# Altium schematic symbol library resistor.SCHLIB: 767 symbols (part 1 of 4)
Pins are listed as number, name and electrical type; pins without a type are passive.

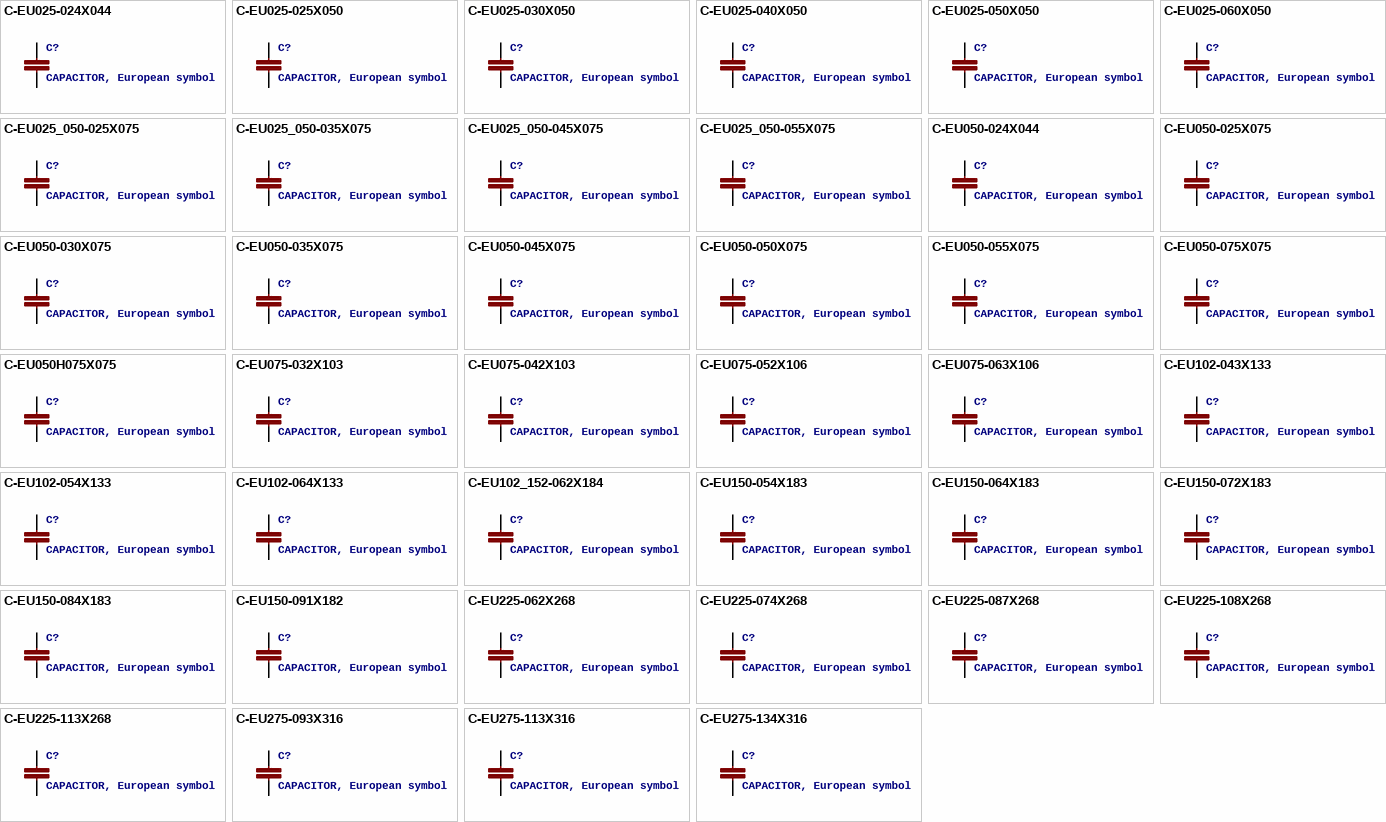
[diagram p0: symbols C-EU025-024X044 to C-EU275-134X316]

## C-EU025-024X044
designator C?, comment CAPACITOR, European symbol
GateName_1: G$1; SymbolName_1: C-EU-1; DeviceName: 025-024X044; DeviceSetName: C-EU; LibraryName: resistor; Package: C025-024X044
footprint C025-024X044
pins: 1, 2

## C-EU025-025X050
designator C?, comment CAPACITOR, European symbol
GateName_1: G$1; SymbolName_1: C-EU-1; DeviceName: 025-025X050; DeviceSetName: C-EU; LibraryName: resistor; Package: C025-025X050
footprint C025-025X050
pins: 1, 2

## C-EU025-030X050
designator C?, comment CAPACITOR, European symbol
GateName_1: G$1; SymbolName_1: C-EU-1; DeviceName: 025-030X050; DeviceSetName: C-EU; LibraryName: resistor; Package: C025-030X050
footprint C025-030X050
pins: 1, 2

## C-EU025-040X050
designator C?, comment CAPACITOR, European symbol
GateName_1: G$1; SymbolName_1: C-EU-1; DeviceName: 025-040X050; DeviceSetName: C-EU; LibraryName: resistor; Package: C025-040X050
footprint C025-040X050
pins: 1, 2

## C-EU025-050X050
designator C?, comment CAPACITOR, European symbol
GateName_1: G$1; SymbolName_1: C-EU-1; DeviceName: 025-050X050; DeviceSetName: C-EU; LibraryName: resistor; Package: C025-050X050
footprint C025-050X050
pins: 1, 2

## C-EU025-060X050
designator C?, comment CAPACITOR, European symbol
GateName_1: G$1; SymbolName_1: C-EU-1; DeviceName: 025-060X050; DeviceSetName: C-EU; LibraryName: resistor; Package: C025-060X050
footprint C025-060X050
pins: 1, 2

## C-EU025_050-025X075
designator C?, comment CAPACITOR, European symbol
GateName_1: G$1; SymbolName_1: C-EU-1; DeviceName: 025_050-025X075; DeviceSetName: C-EU; LibraryName: resistor; Package: C025_050-025X075
footprint C025_050-025X075
pins: 1, 2

## C-EU025_050-035X075
designator C?, comment CAPACITOR, European symbol
GateName_1: G$1; SymbolName_1: C-EU-1; DeviceName: 025_050-035X075; DeviceSetName: C-EU; LibraryName: resistor; Package: C025_050-035X075
footprint C025_050-035X075
pins: 1, 2

## C-EU025_050-045X075
designator C?, comment CAPACITOR, European symbol
GateName_1: G$1; SymbolName_1: C-EU-1; DeviceName: 025_050-045X075; DeviceSetName: C-EU; LibraryName: resistor; Package: C025_050-045X075
footprint C025_050-045X075
pins: 1, 2

## C-EU025_050-055X075
designator C?, comment CAPACITOR, European symbol
GateName_1: G$1; SymbolName_1: C-EU-1; DeviceName: 025_050-055X075; DeviceSetName: C-EU; LibraryName: resistor; Package: C025_050-055X075
footprint C025_050-055X075
pins: 1, 2

## C-EU050-024X044
designator C?, comment CAPACITOR, European symbol
GateName_1: G$1; SymbolName_1: C-EU-1; DeviceName: 050-024X044; DeviceSetName: C-EU; LibraryName: resistor; Package: C050-024X044
footprint C050-024X044
pins: 1, 2

## C-EU050-025X075
designator C?, comment CAPACITOR, European symbol
GateName_1: G$1; SymbolName_1: C-EU-1; DeviceName: 050-025X075; DeviceSetName: C-EU; LibraryName: resistor; Package: C050-025X075
footprint C050-025X075
pins: 1, 2

## C-EU050-030X075
designator C?, comment CAPACITOR, European symbol
GateName_1: G$1; SymbolName_1: C-EU-1; DeviceName: 050-030X075; DeviceSetName: C-EU; LibraryName: resistor; Package: C050-030X075
footprint C050-030X075
pins: 1, 2

## C-EU050-035X075
designator C?, comment CAPACITOR, European symbol
GateName_1: G$1; SymbolName_1: C-EU-1; DeviceName: 050-035X075; DeviceSetName: C-EU; LibraryName: resistor; Package: C050-035X075
footprint C050-035X075
pins: 1, 2

## C-EU050-045X075
designator C?, comment CAPACITOR, European symbol
GateName_1: G$1; SymbolName_1: C-EU-1; DeviceName: 050-045X075; DeviceSetName: C-EU; LibraryName: resistor; Package: C050-045X075
footprint C050-045X075
pins: 1, 2

## C-EU050-050X075
designator C?, comment CAPACITOR, European symbol
GateName_1: G$1; SymbolName_1: C-EU-1; DeviceName: 050-050X075; DeviceSetName: C-EU; LibraryName: resistor; Package: C050-050X075
footprint C050-050X075
pins: 1, 2

## C-EU050-055X075
designator C?, comment CAPACITOR, European symbol
GateName_1: G$1; SymbolName_1: C-EU-1; DeviceName: 050-055X075; DeviceSetName: C-EU; LibraryName: resistor; Package: C050-055X075
footprint C050-055X075
pins: 1, 2

## C-EU050-075X075
designator C?, comment CAPACITOR, European symbol
GateName_1: G$1; SymbolName_1: C-EU-1; DeviceName: 050-075X075; DeviceSetName: C-EU; LibraryName: resistor; Package: C050-075X075
footprint C050-075X075
pins: 1, 2

## C-EU050H075X075
designator C?, comment CAPACITOR, European symbol
GateName_1: G$1; SymbolName_1: C-EU-1; DeviceName: 050H075X075; DeviceSetName: C-EU; LibraryName: resistor; Package: C050H075X075
footprint C050H075X075
pins: 1, 2

## C-EU075-032X103
designator C?, comment CAPACITOR, European symbol
GateName_1: G$1; SymbolName_1: C-EU-1; DeviceName: 075-032X103; DeviceSetName: C-EU; LibraryName: resistor; Package: C075-032X103
footprint C075-032X103
pins: 1, 2

## C-EU075-042X103
designator C?, comment CAPACITOR, European symbol
GateName_1: G$1; SymbolName_1: C-EU-1; DeviceName: 075-042X103; DeviceSetName: C-EU; LibraryName: resistor; Package: C075-042X103
footprint C075-042X103
pins: 1, 2

## C-EU075-052X106
designator C?, comment CAPACITOR, European symbol
GateName_1: G$1; SymbolName_1: C-EU-1; DeviceName: 075-052X106; DeviceSetName: C-EU; LibraryName: resistor; Package: C075-052X106
footprint C075-052X106
pins: 1, 2

## C-EU075-063X106
designator C?, comment CAPACITOR, European symbol
GateName_1: G$1; SymbolName_1: C-EU-1; DeviceName: 075-063X106; DeviceSetName: C-EU; LibraryName: resistor; Package: C075-063X106
footprint C075-063X106
pins: 1, 2

## C-EU102-043X133
designator C?, comment CAPACITOR, European symbol
GateName_1: G$1; SymbolName_1: C-EU-1; DeviceName: 102-043X133; DeviceSetName: C-EU; LibraryName: resistor; Package: C102-043X133
footprint C102-043X133
pins: 1, 2

## C-EU102-054X133
designator C?, comment CAPACITOR, European symbol
GateName_1: G$1; SymbolName_1: C-EU-1; DeviceName: 102-054X133; DeviceSetName: C-EU; LibraryName: resistor; Package: C102-054X133
footprint C102-054X133
pins: 1, 2

## C-EU102-064X133
designator C?, comment CAPACITOR, European symbol
GateName_1: G$1; SymbolName_1: C-EU-1; DeviceName: 102-064X133; DeviceSetName: C-EU; LibraryName: resistor; Package: C102-064X133
footprint C102-064X133
pins: 1, 2

## C-EU102_152-062X184
designator C?, comment CAPACITOR, European symbol
GateName_1: G$1; SymbolName_1: C-EU-1; DeviceName: 102_152-062X184; DeviceSetName: C-EU; LibraryName: resistor; Package: C102_152-062X184
footprint C102_152-062X184
pins: 1, 2

## C-EU150-054X183
designator C?, comment CAPACITOR, European symbol
GateName_1: G$1; SymbolName_1: C-EU-1; DeviceName: 150-054X183; DeviceSetName: C-EU; LibraryName: resistor; Package: C150-054X183
footprint C150-054X183
pins: 1, 2

## C-EU150-064X183
designator C?, comment CAPACITOR, European symbol
GateName_1: G$1; SymbolName_1: C-EU-1; DeviceName: 150-064X183; DeviceSetName: C-EU; LibraryName: resistor; Package: C150-064X183
footprint C150-064X183
pins: 1, 2

## C-EU150-072X183
designator C?, comment CAPACITOR, European symbol
GateName_1: G$1; SymbolName_1: C-EU-1; DeviceName: 150-072X183; DeviceSetName: C-EU; LibraryName: resistor; Package: C150-072X183
footprint C150-072X183
pins: 1, 2

## C-EU150-084X183
designator C?, comment CAPACITOR, European symbol
GateName_1: G$1; SymbolName_1: C-EU-1; DeviceName: 150-084X183; DeviceSetName: C-EU; LibraryName: resistor; Package: C150-084X183
footprint C150-084X183
pins: 1, 2

## C-EU150-091X182
designator C?, comment CAPACITOR, European symbol
GateName_1: G$1; SymbolName_1: C-EU-1; DeviceName: 150-091X182; DeviceSetName: C-EU; LibraryName: resistor; Package: C150-091X182
footprint C150-091X182
pins: 1, 2

## C-EU225-062X268
designator C?, comment CAPACITOR, European symbol
GateName_1: G$1; SymbolName_1: C-EU-1; DeviceName: 225-062X268; DeviceSetName: C-EU; LibraryName: resistor; Package: C225-062X268
footprint C225-062X268
pins: 1, 2

## C-EU225-074X268
designator C?, comment CAPACITOR, European symbol
GateName_1: G$1; SymbolName_1: C-EU-1; DeviceName: 225-074X268; DeviceSetName: C-EU; LibraryName: resistor; Package: C225-074X268
footprint C225-074X268
pins: 1, 2

## C-EU225-087X268
designator C?, comment CAPACITOR, European symbol
GateName_1: G$1; SymbolName_1: C-EU-1; DeviceName: 225-087X268; DeviceSetName: C-EU; LibraryName: resistor; Package: C225-087X268
footprint C225-087X268
pins: 1, 2

## C-EU225-108X268
designator C?, comment CAPACITOR, European symbol
GateName_1: G$1; SymbolName_1: C-EU-1; DeviceName: 225-108X268; DeviceSetName: C-EU; LibraryName: resistor; Package: C225-108X268
footprint C225-108X268
pins: 1, 2

## C-EU225-113X268
designator C?, comment CAPACITOR, European symbol
GateName_1: G$1; SymbolName_1: C-EU-1; DeviceName: 225-113X268; DeviceSetName: C-EU; LibraryName: resistor; Package: C225-113X268
footprint C225-113X268
pins: 1, 2

## C-EU275-093X316
designator C?, comment CAPACITOR, European symbol
GateName_1: G$1; SymbolName_1: C-EU-1; DeviceName: 275-093X316; DeviceSetName: C-EU; LibraryName: resistor; Package: C275-093X316
footprint C275-093X316
pins: 1, 2

## C-EU275-113X316
designator C?, comment CAPACITOR, European symbol
GateName_1: G$1; SymbolName_1: C-EU-1; DeviceName: 275-113X316; DeviceSetName: C-EU; LibraryName: resistor; Package: C275-113X316
footprint C275-113X316
pins: 1, 2

## C-EU275-134X316
designator C?, comment CAPACITOR, European symbol
GateName_1: G$1; SymbolName_1: C-EU-1; DeviceName: 275-134X316; DeviceSetName: C-EU; LibraryName: resistor; Package: C275-134X316
footprint C275-134X316
pins: 1, 2

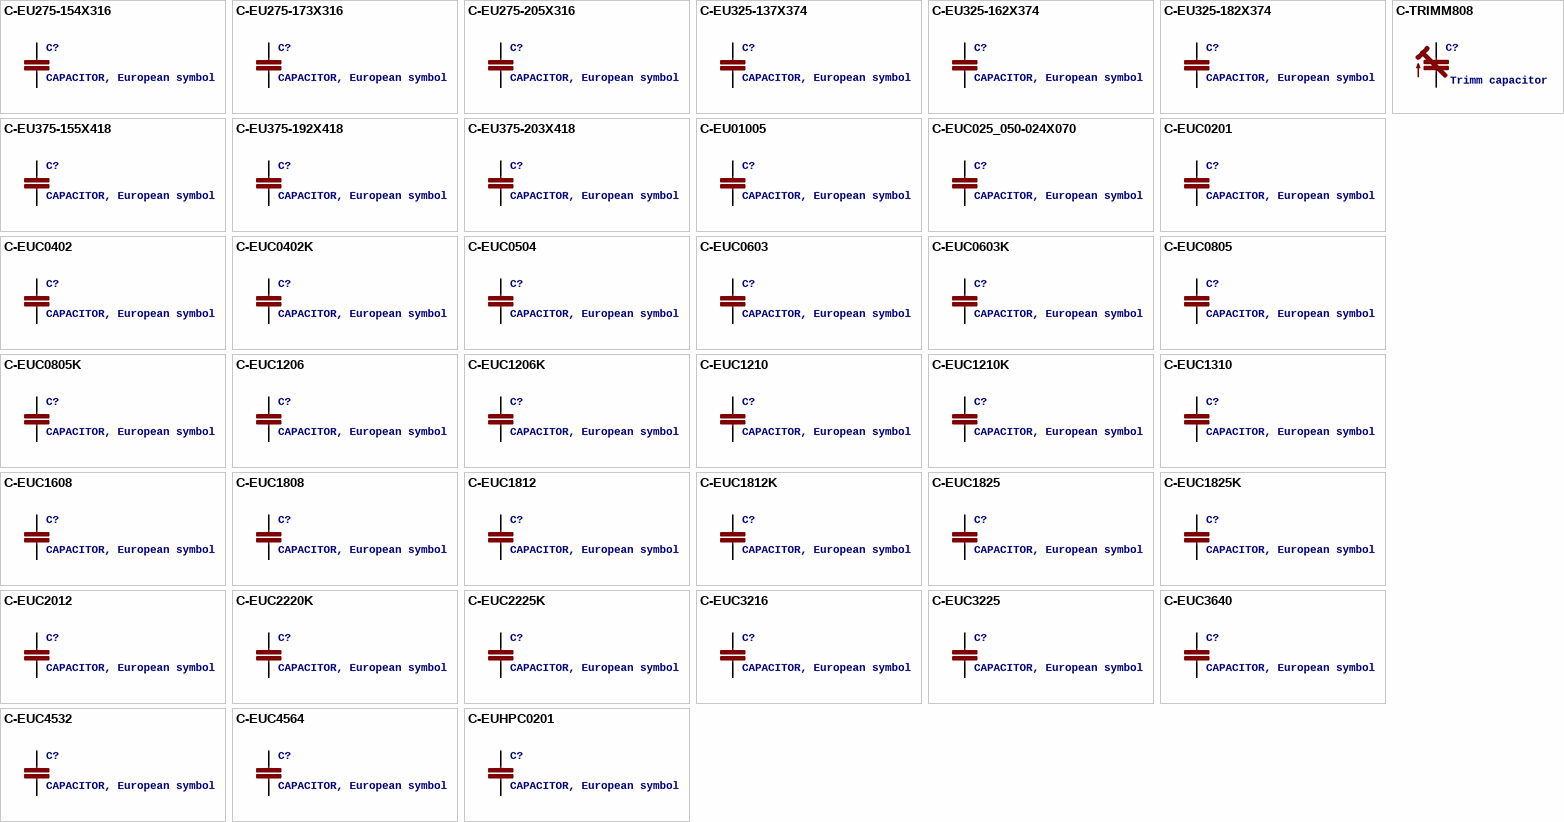
[diagram p1: symbols C-EU275-154X316 to C-TRIMM808]

## C-EU275-154X316
designator C?, comment CAPACITOR, European symbol
GateName_1: G$1; SymbolName_1: C-EU-1; DeviceName: 275-154X316; DeviceSetName: C-EU; LibraryName: resistor; Package: C275-154X316
footprint C275-154X316
pins: 1, 2

## C-EU275-173X316
designator C?, comment CAPACITOR, European symbol
GateName_1: G$1; SymbolName_1: C-EU-1; DeviceName: 275-173X316; DeviceSetName: C-EU; LibraryName: resistor; Package: C275-173X316
footprint C275-173X316
pins: 1, 2

## C-EU275-205X316
designator C?, comment CAPACITOR, European symbol
GateName_1: G$1; SymbolName_1: C-EU-1; DeviceName: 275-205X316; DeviceSetName: C-EU; LibraryName: resistor; Package: C275-205X316
footprint C275-205X316
pins: 1, 2

## C-EU325-137X374
designator C?, comment CAPACITOR, European symbol
GateName_1: G$1; SymbolName_1: C-EU-1; DeviceName: 325-137X374; DeviceSetName: C-EU; LibraryName: resistor; Package: C325-137X374
footprint C325-137X374
pins: 1, 2

## C-EU325-162X374
designator C?, comment CAPACITOR, European symbol
GateName_1: G$1; SymbolName_1: C-EU-1; DeviceName: 325-162X374; DeviceSetName: C-EU; LibraryName: resistor; Package: C325-162X374
footprint C325-162X374
pins: 1, 2

## C-EU325-182X374
designator C?, comment CAPACITOR, European symbol
GateName_1: G$1; SymbolName_1: C-EU-1; DeviceName: 325-182X374; DeviceSetName: C-EU; LibraryName: resistor; Package: C325-182X374
footprint C325-182X374
pins: 1, 2

## C-EU375-155X418
designator C?, comment CAPACITOR, European symbol
GateName_1: G$1; SymbolName_1: C-EU-1; DeviceName: 375-155X418; DeviceSetName: C-EU; LibraryName: resistor; Package: C375-155X418
footprint C375-155X418
pins: 1, 2

## C-EU375-192X418
designator C?, comment CAPACITOR, European symbol
GateName_1: G$1; SymbolName_1: C-EU-1; DeviceName: 375-192X418; DeviceSetName: C-EU; LibraryName: resistor; Package: C375-192X418
footprint C375-192X418
pins: 1, 2

## C-EU375-203X418
designator C?, comment CAPACITOR, European symbol
GateName_1: G$1; SymbolName_1: C-EU-1; DeviceName: 375-203X418; DeviceSetName: C-EU; LibraryName: resistor; Package: C375-203X418
footprint C375-203X418
pins: 1, 2

## C-EU01005
designator C?, comment CAPACITOR, European symbol
GateName_1: G$1; SymbolName_1: C-EU-1; DeviceName: 01005; DeviceSetName: C-EU; LibraryName: resistor; Package: C01005
footprint C01005
pins: 1, 2

## C-EUC025_050-024X070
designator C?, comment CAPACITOR, European symbol
GateName_1: G$1; SymbolName_1: C-EU-1; DeviceName: C025_050-024X070; DeviceSetName: C-EU; LibraryName: resistor; Package: C025_050-024X070
footprint C025_050-024X070
pins: 1, 2

## C-EUC0201
designator C?, comment CAPACITOR, European symbol
GateName_1: G$1; SymbolName_1: C-EU-1; DeviceName: C0201; DeviceSetName: C-EU; LibraryName: resistor; Package: C0201
footprint C0201
pins: 1, 2

## C-EUC0402
designator C?, comment CAPACITOR, European symbol
GateName_1: G$1; SymbolName_1: C-EU-1; DeviceName: C0402; DeviceSetName: C-EU; LibraryName: resistor; Package: C0402
footprint C0402
pins: 1, 2

## C-EUC0402K
designator C?, comment CAPACITOR, European symbol
GateName_1: G$1; SymbolName_1: C-EU-1; DeviceName: C0402K; DeviceSetName: C-EU; LibraryName: resistor; Package: C0402K
footprint C0402K
pins: 1, 2

## C-EUC0504
designator C?, comment CAPACITOR, European symbol
GateName_1: G$1; SymbolName_1: C-EU-1; DeviceName: C0504; DeviceSetName: C-EU; LibraryName: resistor; Package: C0504
footprint C0504
pins: 1, 2

## C-EUC0603
designator C?, comment CAPACITOR, European symbol
GateName_1: G$1; SymbolName_1: C-EU-1; DeviceName: C0603; DeviceSetName: C-EU; LibraryName: resistor; Package: C0603
footprint C0603
pins: 1, 2

## C-EUC0603K
designator C?, comment CAPACITOR, European symbol
GateName_1: G$1; SymbolName_1: C-EU-1; DeviceName: C0603K; DeviceSetName: C-EU; LibraryName: resistor; Package: C0603K
footprint C0603K
pins: 1, 2

## C-EUC0805
designator C?, comment CAPACITOR, European symbol
GateName_1: G$1; SymbolName_1: C-EU-1; DeviceName: C0805; DeviceSetName: C-EU; LibraryName: resistor; Package: C0805
footprint C0805
pins: 1, 2

## C-EUC0805K
designator C?, comment CAPACITOR, European symbol
GateName_1: G$1; SymbolName_1: C-EU-1; DeviceName: C0805K; DeviceSetName: C-EU; LibraryName: resistor; Package: C0805K
footprint C0805K
pins: 1, 2

## C-EUC1206
designator C?, comment CAPACITOR, European symbol
GateName_1: G$1; SymbolName_1: C-EU-1; DeviceName: C1206; DeviceSetName: C-EU; LibraryName: resistor; Package: C1206
footprint C1206
pins: 1, 2

## C-EUC1206K
designator C?, comment CAPACITOR, European symbol
GateName_1: G$1; SymbolName_1: C-EU-1; DeviceName: C1206K; DeviceSetName: C-EU; LibraryName: resistor; Package: C1206K
footprint C1206K
pins: 1, 2

## C-EUC1210
designator C?, comment CAPACITOR, European symbol
GateName_1: G$1; SymbolName_1: C-EU-1; DeviceName: C1210; DeviceSetName: C-EU; LibraryName: resistor; Package: C1210
footprint C1210
pins: 1, 2

## C-EUC1210K
designator C?, comment CAPACITOR, European symbol
GateName_1: G$1; SymbolName_1: C-EU-1; DeviceName: C1210K; DeviceSetName: C-EU; LibraryName: resistor; Package: C1210K
footprint C1210K
pins: 1, 2

## C-EUC1310
designator C?, comment CAPACITOR, European symbol
GateName_1: G$1; SymbolName_1: C-EU-1; DeviceName: C1310; DeviceSetName: C-EU; LibraryName: resistor; Package: C1310
footprint C1310
pins: 1, 2

## C-EUC1608
designator C?, comment CAPACITOR, European symbol
GateName_1: G$1; SymbolName_1: C-EU-1; DeviceName: C1608; DeviceSetName: C-EU; LibraryName: resistor; Package: C1608
footprint C1608
pins: 1, 2

## C-EUC1808
designator C?, comment CAPACITOR, European symbol
GateName_1: G$1; SymbolName_1: C-EU-1; DeviceName: C1808; DeviceSetName: C-EU; LibraryName: resistor; Package: C1808
footprint C1808
pins: 1, 2

## C-EUC1812
designator C?, comment CAPACITOR, European symbol
GateName_1: G$1; SymbolName_1: C-EU-1; DeviceName: C1812; DeviceSetName: C-EU; LibraryName: resistor; Package: C1812
footprint C1812
pins: 1, 2

## C-EUC1812K
designator C?, comment CAPACITOR, European symbol
GateName_1: G$1; SymbolName_1: C-EU-1; DeviceName: C1812K; DeviceSetName: C-EU; LibraryName: resistor; Package: C1812K
footprint C1812K
pins: 1, 2

## C-EUC1825
designator C?, comment CAPACITOR, European symbol
GateName_1: G$1; SymbolName_1: C-EU-1; DeviceName: C1825; DeviceSetName: C-EU; LibraryName: resistor; Package: C1825
footprint C1825
pins: 1, 2

## C-EUC1825K
designator C?, comment CAPACITOR, European symbol
GateName_1: G$1; SymbolName_1: C-EU-1; DeviceName: C1825K; DeviceSetName: C-EU; LibraryName: resistor; Package: C1825K
footprint C1825K
pins: 1, 2

## C-EUC2012
designator C?, comment CAPACITOR, European symbol
GateName_1: G$1; SymbolName_1: C-EU-1; DeviceName: C2012; DeviceSetName: C-EU; LibraryName: resistor; Package: C2012
footprint C2012
pins: 1, 2

## C-EUC2220K
designator C?, comment CAPACITOR, European symbol
GateName_1: G$1; SymbolName_1: C-EU-1; DeviceName: C2220K; DeviceSetName: C-EU; LibraryName: resistor; Package: C2220K
footprint C2220K
pins: 1, 2

## C-EUC2225K
designator C?, comment CAPACITOR, European symbol
GateName_1: G$1; SymbolName_1: C-EU-1; DeviceName: C2225K; DeviceSetName: C-EU; LibraryName: resistor; Package: C2225K
footprint C2225K
pins: 1, 2

## C-EUC3216
designator C?, comment CAPACITOR, European symbol
GateName_1: G$1; SymbolName_1: C-EU-1; DeviceName: C3216; DeviceSetName: C-EU; LibraryName: resistor; Package: C3216
footprint C3216
pins: 1, 2

## C-EUC3225
designator C?, comment CAPACITOR, European symbol
GateName_1: G$1; SymbolName_1: C-EU-1; DeviceName: C3225; DeviceSetName: C-EU; LibraryName: resistor; Package: C3225
footprint C3225
pins: 1, 2

## C-EUC3640
designator C?, comment CAPACITOR, European symbol
GateName_1: G$1; SymbolName_1: C-EU-1; DeviceName: C3640; DeviceSetName: C-EU; LibraryName: resistor; Package: C3640
footprint C3640
pins: 1, 2

## C-EUC4532
designator C?, comment CAPACITOR, European symbol
GateName_1: G$1; SymbolName_1: C-EU-1; DeviceName: C4532; DeviceSetName: C-EU; LibraryName: resistor; Package: C4532
footprint C4532
pins: 1, 2

## C-EUC4564
designator C?, comment CAPACITOR, European symbol
GateName_1: G$1; SymbolName_1: C-EU-1; DeviceName: C4564; DeviceSetName: C-EU; LibraryName: resistor; Package: C4564
footprint C4564
pins: 1, 2

## C-EUHPC0201
designator C?, comment CAPACITOR, European symbol
GateName_1: G$1; SymbolName_1: C-EU-1; DeviceName: HPC0201; DeviceSetName: C-EU; LibraryName: resistor; Package: HPC0201
footprint HPC0201
pins: 1, 2

## C-TRIMM808
designator C?, comment Trimm capacitor
GateName_1: G$1; SymbolName_1: C-TRIMM; DeviceName: 808; LibraryName: resistor; DeviceSetName: C-TRIMM; Package: CTRIM808-BC
footprint CTRIM808-BC
pins: 1 E, 2 A

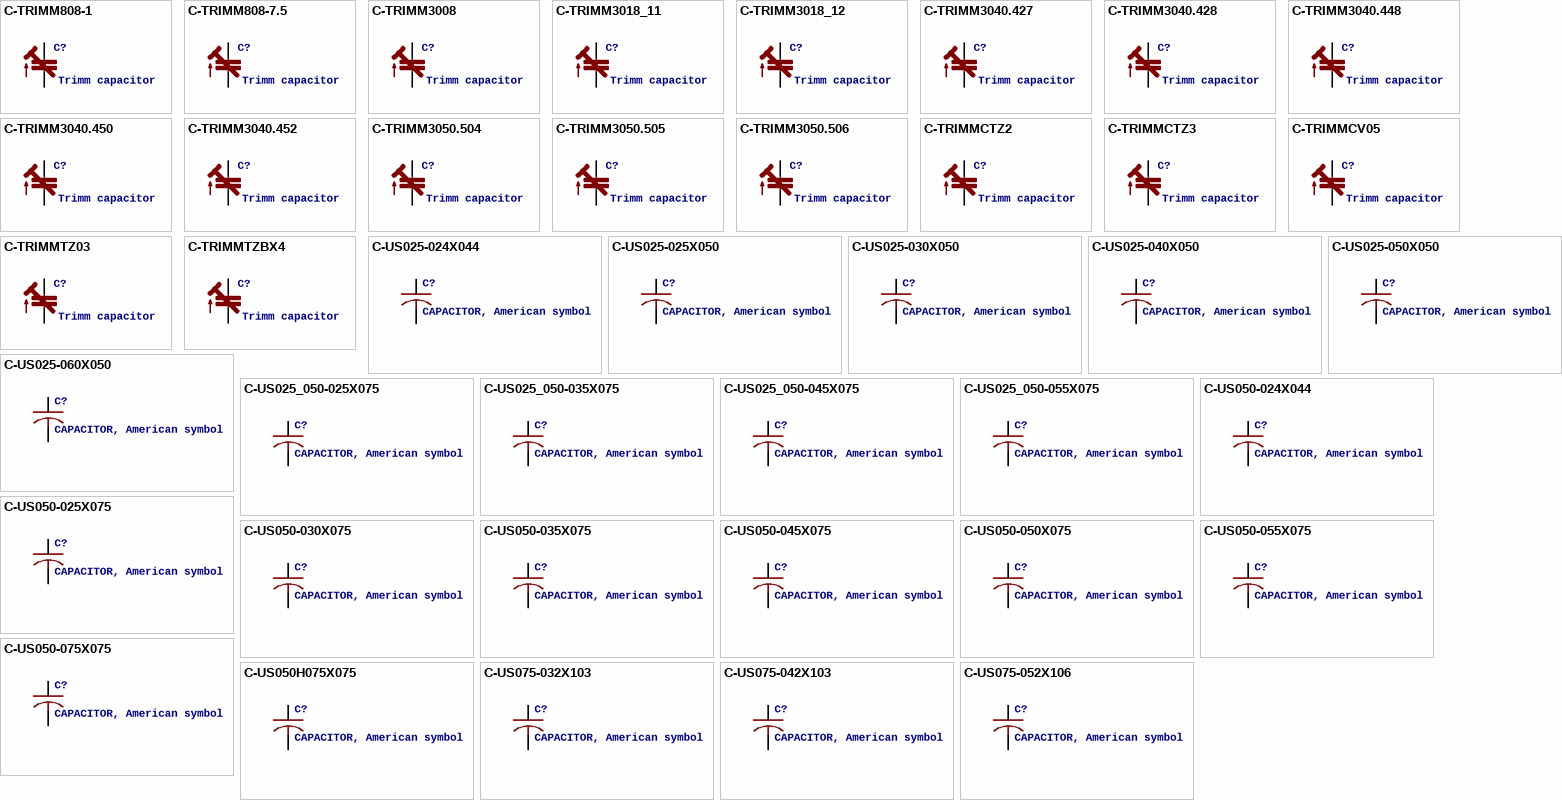
[diagram p2: symbols C-TRIMM808-1 to C-US075-052X106]

## C-TRIMM808-1
designator C?, comment Trimm capacitor
GateName_1: G$1; SymbolName_1: C-TRIMM; DeviceName: 808-1; LibraryName: resistor; DeviceSetName: C-TRIMM; Package: CTRIM808-1
footprint CTRIM808-1
pins: 1 E, 2 A

## C-TRIMM808-7.5
designator C?, comment Trimm capacitor
GateName_1: G$1; SymbolName_1: C-TRIMM; DeviceName: 808-7.5; LibraryName: resistor; DeviceSetName: C-TRIMM; Package: CTRIM808-BC7.5
footprint CTRIM808-BC7.5
pins: 1 E, 2 A

## C-TRIMM3008
designator C?, comment Trimm capacitor
GateName_1: G$1; SymbolName_1: C-TRIMM; DeviceName: 3008; LibraryName: resistor; DeviceSetName: C-TRIMM; Package: CTRIM3008
footprint CTRIM3008
pins: + E, - A

## C-TRIMM3018_11
designator C?, comment Trimm capacitor
GateName_1: G$1; SymbolName_1: C-TRIMM; DeviceName: 3018_11; LibraryName: resistor; DeviceSetName: C-TRIMM; Package: CTRIM3018_11
footprint CTRIM3018_11
pins: + E, - A

## C-TRIMM3018_12
designator C?, comment Trimm capacitor
GateName_1: G$1; SymbolName_1: C-TRIMM; DeviceName: 3018_12; LibraryName: resistor; DeviceSetName: C-TRIMM; Package: CTRIM3018_12
footprint CTRIM3018_12
pins: + E, - A

## C-TRIMM3040.427
designator C?, comment Trimm capacitor
GateName_1: G$1; SymbolName_1: C-TRIMM; DeviceName: 3040.427; LibraryName: resistor; DeviceSetName: C-TRIMM; Package: CTRIM3040.427
footprint CTRIM3040.427
pins: 1A E, 2 A

## C-TRIMM3040.428
designator C?, comment Trimm capacitor
GateName_1: G$1; SymbolName_1: C-TRIMM; DeviceName: 3040.428; LibraryName: resistor; DeviceSetName: C-TRIMM; Package: CTRIM3040.428
footprint CTRIM3040.428
pins: 1A E, 2 A

## C-TRIMM3040.448
designator C?, comment Trimm capacitor
GateName_1: G$1; SymbolName_1: C-TRIMM; DeviceName: 3040.448; LibraryName: resistor; DeviceSetName: C-TRIMM; Package: CTRIM3040.448
footprint CTRIM3040.448
pins: 1A E, 2 A

## C-TRIMM3040.450
designator C?, comment Trimm capacitor
GateName_1: G$1; SymbolName_1: C-TRIMM; DeviceName: 3040.450; LibraryName: resistor; DeviceSetName: C-TRIMM; Package: CTRIM3040.450
footprint CTRIM3040.450
pins: 1A E, 2 A

## C-TRIMM3040.452
designator C?, comment Trimm capacitor
GateName_1: G$1; SymbolName_1: C-TRIMM; DeviceName: 3040.452; LibraryName: resistor; DeviceSetName: C-TRIMM; Package: CTRIM3040.452
footprint CTRIM3040.452
pins: 1A E, 2 A

## C-TRIMM3050.504
designator C?, comment Trimm capacitor
GateName_1: G$1; SymbolName_1: C-TRIMM; DeviceName: 3050.504; LibraryName: resistor; DeviceSetName: C-TRIMM; Package: CTRIM3050.504
footprint CTRIM3050.504
pins: 1 E, 2 A

## C-TRIMM3050.505
designator C?, comment Trimm capacitor
GateName_1: G$1; SymbolName_1: C-TRIMM; DeviceName: 3050.505; LibraryName: resistor; DeviceSetName: C-TRIMM; Package: CTRIM3050.505
footprint CTRIM3050.505
pins: 1 E, 2 A

## C-TRIMM3050.506
designator C?, comment Trimm capacitor
GateName_1: G$1; SymbolName_1: C-TRIMM; DeviceName: 3050.506; LibraryName: resistor; DeviceSetName: C-TRIMM; Package: CTRIM3050.506
footprint CTRIM3050.506
pins: 1A E, 2 A

## C-TRIMMCTZ2
designator C?, comment Trimm capacitor
GateName_1: G$1; SymbolName_1: C-TRIMM; DeviceName: CTZ2; LibraryName: resistor; DeviceSetName: C-TRIMM; Package: CTRIMCTZ2
footprint CTRIMCTZ2
pins: 1 E, 2 A

## C-TRIMMCTZ3
designator C?, comment Trimm capacitor
GateName_1: G$1; SymbolName_1: C-TRIMM; DeviceName: CTZ3; LibraryName: resistor; DeviceSetName: C-TRIMM; Package: CTRIMCTZ3
footprint CTRIMCTZ3
pins: 1 E, 2 A

## C-TRIMMCV05
designator C?, comment Trimm capacitor
GateName_1: G$1; SymbolName_1: C-TRIMM; DeviceName: CV05; LibraryName: resistor; DeviceSetName: C-TRIMM; Package: CTRIMCV05
footprint CTRIMCV05
pins: 1 E, 2 A

## C-TRIMMTZ03
designator C?, comment Trimm capacitor
GateName_1: G$1; SymbolName_1: C-TRIMM; DeviceName: TZ03; LibraryName: resistor; DeviceSetName: C-TRIMM; Package: CTRIMTZ03
footprint CTRIMTZ03
pins: 1 E, 2 A

## C-TRIMMTZBX4
designator C?, comment Trimm capacitor
GateName_1: G$1; SymbolName_1: C-TRIMM; DeviceName: TZBX4; LibraryName: resistor; DeviceSetName: C-TRIMM; Package: CTRIMTZBX4
footprint CTRIMTZBX4
pins: 1 E, 2 A

## C-US025-024X044
designator C?, comment CAPACITOR, American symbol
GateName_1: G$1; SymbolName_1: C-US-1; DeviceName: 025-024X044; DeviceSetName: C-US; LibraryName: resistor; Package: C025-024X044
footprint C025-024X044
pins: 1, 2

## C-US025-025X050
designator C?, comment CAPACITOR, American symbol
GateName_1: G$1; SymbolName_1: C-US-1; DeviceName: 025-025X050; DeviceSetName: C-US; LibraryName: resistor; Package: C025-025X050
footprint C025-025X050
pins: 1, 2

## C-US025-030X050
designator C?, comment CAPACITOR, American symbol
GateName_1: G$1; SymbolName_1: C-US-1; DeviceName: 025-030X050; DeviceSetName: C-US; LibraryName: resistor; Package: C025-030X050
footprint C025-030X050
pins: 1, 2

## C-US025-040X050
designator C?, comment CAPACITOR, American symbol
GateName_1: G$1; SymbolName_1: C-US-1; DeviceName: 025-040X050; DeviceSetName: C-US; LibraryName: resistor; Package: C025-040X050
footprint C025-040X050
pins: 1, 2

## C-US025-050X050
designator C?, comment CAPACITOR, American symbol
GateName_1: G$1; SymbolName_1: C-US-1; DeviceName: 025-050X050; DeviceSetName: C-US; LibraryName: resistor; Package: C025-050X050
footprint C025-050X050
pins: 1, 2

## C-US025-060X050
designator C?, comment CAPACITOR, American symbol
GateName_1: G$1; SymbolName_1: C-US-1; DeviceName: 025-060X050; DeviceSetName: C-US; LibraryName: resistor; Package: C025-060X050
footprint C025-060X050
pins: 1, 2

## C-US025_050-025X075
designator C?, comment CAPACITOR, American symbol
GateName_1: G$1; SymbolName_1: C-US-1; DeviceName: 025_050-025X075; DeviceSetName: C-US; LibraryName: resistor; Package: C025_050-025X075
footprint C025_050-025X075
pins: 1, 2

## C-US025_050-035X075
designator C?, comment CAPACITOR, American symbol
GateName_1: G$1; SymbolName_1: C-US-1; DeviceName: 025_050-035X075; DeviceSetName: C-US; LibraryName: resistor; Package: C025_050-035X075
footprint C025_050-035X075
pins: 1, 2

## C-US025_050-045X075
designator C?, comment CAPACITOR, American symbol
GateName_1: G$1; SymbolName_1: C-US-1; DeviceName: 025_050-045X075; DeviceSetName: C-US; LibraryName: resistor; Package: C025_050-045X075
footprint C025_050-045X075
pins: 1, 2

## C-US025_050-055X075
designator C?, comment CAPACITOR, American symbol
GateName_1: G$1; SymbolName_1: C-US-1; DeviceName: 025_050-055X075; DeviceSetName: C-US; LibraryName: resistor; Package: C025_050-055X075
footprint C025_050-055X075
pins: 1, 2

## C-US050-024X044
designator C?, comment CAPACITOR, American symbol
GateName_1: G$1; SymbolName_1: C-US-1; DeviceName: 050-024X044; DeviceSetName: C-US; LibraryName: resistor; Package: C050-024X044
footprint C050-024X044
pins: 1, 2

## C-US050-025X075
designator C?, comment CAPACITOR, American symbol
GateName_1: G$1; SymbolName_1: C-US-1; DeviceName: 050-025X075; DeviceSetName: C-US; LibraryName: resistor; Package: C050-025X075
footprint C050-025X075
pins: 1, 2

## C-US050-030X075
designator C?, comment CAPACITOR, American symbol
GateName_1: G$1; SymbolName_1: C-US-1; DeviceName: 050-030X075; DeviceSetName: C-US; LibraryName: resistor; Package: C050-030X075
footprint C050-030X075
pins: 1, 2

## C-US050-035X075
designator C?, comment CAPACITOR, American symbol
GateName_1: G$1; SymbolName_1: C-US-1; DeviceName: 050-035X075; DeviceSetName: C-US; LibraryName: resistor; Package: C050-035X075
footprint C050-035X075
pins: 1, 2

## C-US050-045X075
designator C?, comment CAPACITOR, American symbol
GateName_1: G$1; SymbolName_1: C-US-1; DeviceName: 050-045X075; DeviceSetName: C-US; LibraryName: resistor; Package: C050-045X075
footprint C050-045X075
pins: 1, 2

## C-US050-050X075
designator C?, comment CAPACITOR, American symbol
GateName_1: G$1; SymbolName_1: C-US-1; DeviceName: 050-050X075; DeviceSetName: C-US; LibraryName: resistor; Package: C050-050X075
footprint C050-050X075
pins: 1, 2

## C-US050-055X075
designator C?, comment CAPACITOR, American symbol
GateName_1: G$1; SymbolName_1: C-US-1; DeviceName: 050-055X075; DeviceSetName: C-US; LibraryName: resistor; Package: C050-055X075
footprint C050-055X075
pins: 1, 2

## C-US050-075X075
designator C?, comment CAPACITOR, American symbol
GateName_1: G$1; SymbolName_1: C-US-1; DeviceName: 050-075X075; DeviceSetName: C-US; LibraryName: resistor; Package: C050-075X075
footprint C050-075X075
pins: 1, 2

## C-US050H075X075
designator C?, comment CAPACITOR, American symbol
GateName_1: G$1; SymbolName_1: C-US-1; DeviceName: 050H075X075; DeviceSetName: C-US; LibraryName: resistor; Package: C050H075X075
footprint C050H075X075
pins: 1, 2

## C-US075-032X103
designator C?, comment CAPACITOR, American symbol
GateName_1: G$1; SymbolName_1: C-US-1; DeviceName: 075-032X103; DeviceSetName: C-US; LibraryName: resistor; Package: C075-032X103
footprint C075-032X103
pins: 1, 2

## C-US075-042X103
designator C?, comment CAPACITOR, American symbol
GateName_1: G$1; SymbolName_1: C-US-1; DeviceName: 075-042X103; DeviceSetName: C-US; LibraryName: resistor; Package: C075-042X103
footprint C075-042X103
pins: 1, 2

## C-US075-052X106
designator C?, comment CAPACITOR, American symbol
GateName_1: G$1; SymbolName_1: C-US-1; DeviceName: 075-052X106; DeviceSetName: C-US; LibraryName: resistor; Package: C075-052X106
footprint C075-052X106
pins: 1, 2

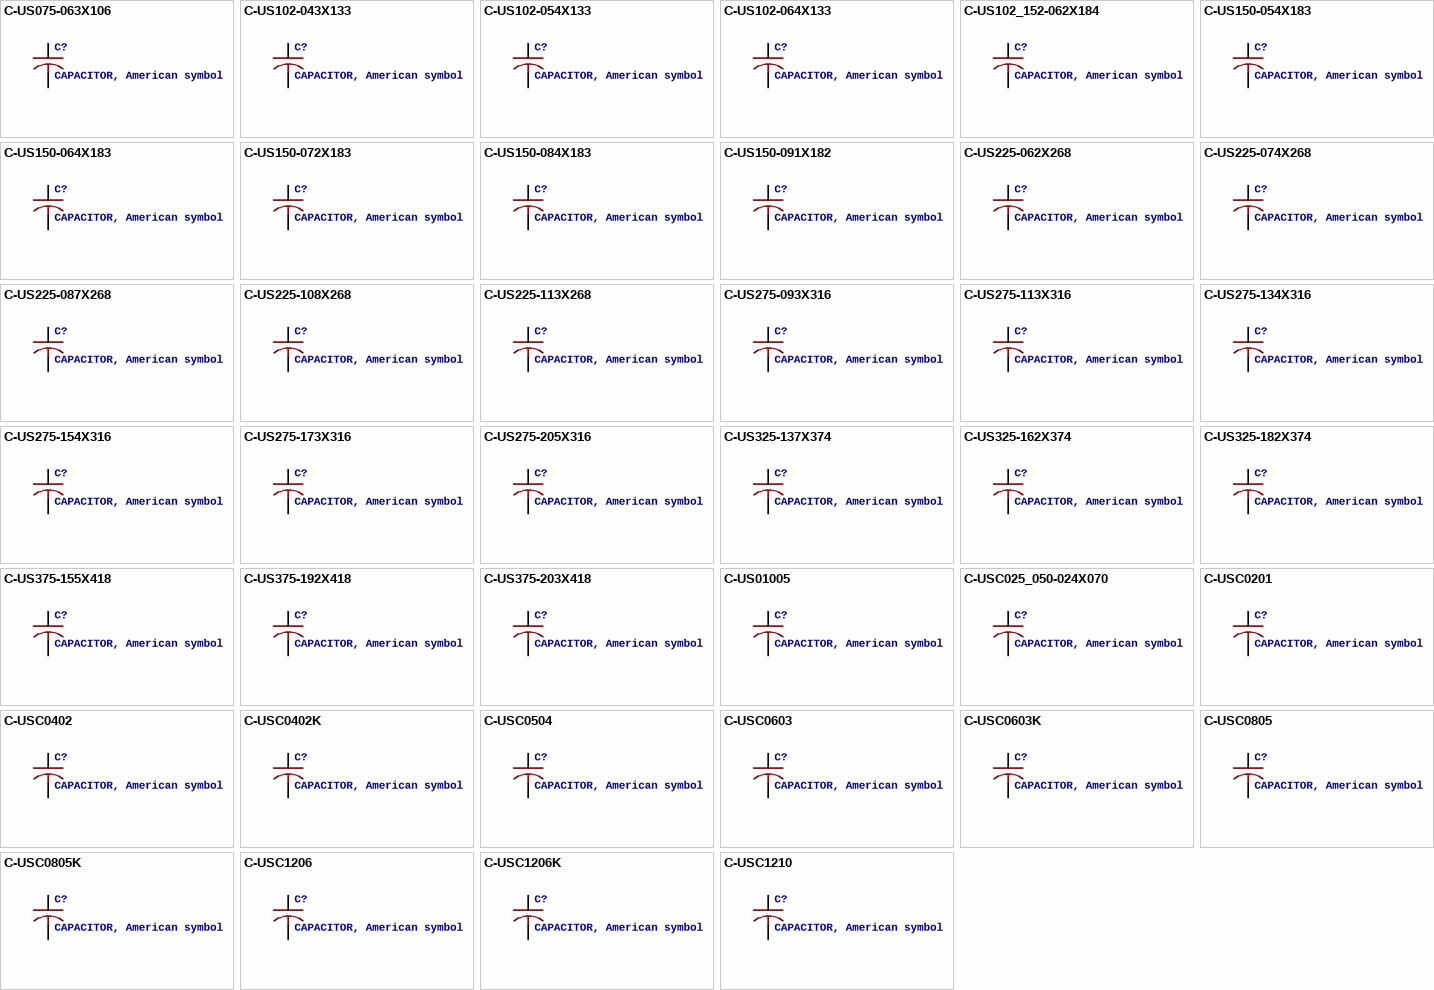
[diagram p3: symbols C-US075-063X106 to C-USC1210]

## C-US075-063X106
designator C?, comment CAPACITOR, American symbol
GateName_1: G$1; SymbolName_1: C-US-1; DeviceName: 075-063X106; DeviceSetName: C-US; LibraryName: resistor; Package: C075-063X106
footprint C075-063X106
pins: 1, 2

## C-US102-043X133
designator C?, comment CAPACITOR, American symbol
GateName_1: G$1; SymbolName_1: C-US-1; DeviceName: 102-043X133; DeviceSetName: C-US; LibraryName: resistor; Package: C102-043X133
footprint C102-043X133
pins: 1, 2

## C-US102-054X133
designator C?, comment CAPACITOR, American symbol
GateName_1: G$1; SymbolName_1: C-US-1; DeviceName: 102-054X133; DeviceSetName: C-US; LibraryName: resistor; Package: C102-054X133
footprint C102-054X133
pins: 1, 2

## C-US102-064X133
designator C?, comment CAPACITOR, American symbol
GateName_1: G$1; SymbolName_1: C-US-1; DeviceName: 102-064X133; DeviceSetName: C-US; LibraryName: resistor; Package: C102-064X133
footprint C102-064X133
pins: 1, 2

## C-US102_152-062X184
designator C?, comment CAPACITOR, American symbol
GateName_1: G$1; SymbolName_1: C-US-1; DeviceName: 102_152-062X184; DeviceSetName: C-US; LibraryName: resistor; Package: C102_152-062X184
footprint C102_152-062X184
pins: 1, 2

## C-US150-054X183
designator C?, comment CAPACITOR, American symbol
GateName_1: G$1; SymbolName_1: C-US-1; DeviceName: 150-054X183; DeviceSetName: C-US; LibraryName: resistor; Package: C150-054X183
footprint C150-054X183
pins: 1, 2

## C-US150-064X183
designator C?, comment CAPACITOR, American symbol
GateName_1: G$1; SymbolName_1: C-US-1; DeviceName: 150-064X183; DeviceSetName: C-US; LibraryName: resistor; Package: C150-064X183
footprint C150-064X183
pins: 1, 2

## C-US150-072X183
designator C?, comment CAPACITOR, American symbol
GateName_1: G$1; SymbolName_1: C-US-1; DeviceName: 150-072X183; DeviceSetName: C-US; LibraryName: resistor; Package: C150-072X183
footprint C150-072X183
pins: 1, 2

## C-US150-084X183
designator C?, comment CAPACITOR, American symbol
GateName_1: G$1; SymbolName_1: C-US-1; DeviceName: 150-084X183; DeviceSetName: C-US; LibraryName: resistor; Package: C150-084X183
footprint C150-084X183
pins: 1, 2

## C-US150-091X182
designator C?, comment CAPACITOR, American symbol
GateName_1: G$1; SymbolName_1: C-US-1; DeviceName: 150-091X182; DeviceSetName: C-US; LibraryName: resistor; Package: C150-091X182
footprint C150-091X182
pins: 1, 2

## C-US225-062X268
designator C?, comment CAPACITOR, American symbol
GateName_1: G$1; SymbolName_1: C-US-1; DeviceName: 225-062X268; DeviceSetName: C-US; LibraryName: resistor; Package: C225-062X268
footprint C225-062X268
pins: 1, 2

## C-US225-074X268
designator C?, comment CAPACITOR, American symbol
GateName_1: G$1; SymbolName_1: C-US-1; DeviceName: 225-074X268; DeviceSetName: C-US; LibraryName: resistor; Package: C225-074X268
footprint C225-074X268
pins: 1, 2

## C-US225-087X268
designator C?, comment CAPACITOR, American symbol
GateName_1: G$1; SymbolName_1: C-US-1; DeviceName: 225-087X268; DeviceSetName: C-US; LibraryName: resistor; Package: C225-087X268
footprint C225-087X268
pins: 1, 2

## C-US225-108X268
designator C?, comment CAPACITOR, American symbol
GateName_1: G$1; SymbolName_1: C-US-1; DeviceName: 225-108X268; DeviceSetName: C-US; LibraryName: resistor; Package: C225-108X268
footprint C225-108X268
pins: 1, 2

## C-US225-113X268
designator C?, comment CAPACITOR, American symbol
GateName_1: G$1; SymbolName_1: C-US-1; DeviceName: 225-113X268; DeviceSetName: C-US; LibraryName: resistor; Package: C225-113X268
footprint C225-113X268
pins: 1, 2

## C-US275-093X316
designator C?, comment CAPACITOR, American symbol
GateName_1: G$1; SymbolName_1: C-US-1; DeviceName: 275-093X316; DeviceSetName: C-US; LibraryName: resistor; Package: C275-093X316
footprint C275-093X316
pins: 1, 2

## C-US275-113X316
designator C?, comment CAPACITOR, American symbol
GateName_1: G$1; SymbolName_1: C-US-1; DeviceName: 275-113X316; DeviceSetName: C-US; LibraryName: resistor; Package: C275-113X316
footprint C275-113X316
pins: 1, 2

## C-US275-134X316
designator C?, comment CAPACITOR, American symbol
GateName_1: G$1; SymbolName_1: C-US-1; DeviceName: 275-134X316; DeviceSetName: C-US; LibraryName: resistor; Package: C275-134X316
footprint C275-134X316
pins: 1, 2

## C-US275-154X316
designator C?, comment CAPACITOR, American symbol
GateName_1: G$1; SymbolName_1: C-US-1; DeviceName: 275-154X316; DeviceSetName: C-US; LibraryName: resistor; Package: C275-154X316
footprint C275-154X316
pins: 1, 2

## C-US275-173X316
designator C?, comment CAPACITOR, American symbol
GateName_1: G$1; SymbolName_1: C-US-1; DeviceName: 275-173X316; DeviceSetName: C-US; LibraryName: resistor; Package: C275-173X316
footprint C275-173X316
pins: 1, 2

## C-US275-205X316
designator C?, comment CAPACITOR, American symbol
GateName_1: G$1; SymbolName_1: C-US-1; DeviceName: 275-205X316; DeviceSetName: C-US; LibraryName: resistor; Package: C275-205X316
footprint C275-205X316
pins: 1, 2

## C-US325-137X374
designator C?, comment CAPACITOR, American symbol
GateName_1: G$1; SymbolName_1: C-US-1; DeviceName: 325-137X374; DeviceSetName: C-US; LibraryName: resistor; Package: C325-137X374
footprint C325-137X374
pins: 1, 2

## C-US325-162X374
designator C?, comment CAPACITOR, American symbol
GateName_1: G$1; SymbolName_1: C-US-1; DeviceName: 325-162X374; DeviceSetName: C-US; LibraryName: resistor; Package: C325-162X374
footprint C325-162X374
pins: 1, 2

## C-US325-182X374
designator C?, comment CAPACITOR, American symbol
GateName_1: G$1; SymbolName_1: C-US-1; DeviceName: 325-182X374; DeviceSetName: C-US; LibraryName: resistor; Package: C325-182X374
footprint C325-182X374
pins: 1, 2

## C-US375-155X418
designator C?, comment CAPACITOR, American symbol
GateName_1: G$1; SymbolName_1: C-US-1; DeviceName: 375-155X418; DeviceSetName: C-US; LibraryName: resistor; Package: C375-155X418
footprint C375-155X418
pins: 1, 2

## C-US375-192X418
designator C?, comment CAPACITOR, American symbol
GateName_1: G$1; SymbolName_1: C-US-1; DeviceName: 375-192X418; DeviceSetName: C-US; LibraryName: resistor; Package: C375-192X418
footprint C375-192X418
pins: 1, 2

## C-US375-203X418
designator C?, comment CAPACITOR, American symbol
GateName_1: G$1; SymbolName_1: C-US-1; DeviceName: 375-203X418; DeviceSetName: C-US; LibraryName: resistor; Package: C375-203X418
footprint C375-203X418
pins: 1, 2

## C-US01005
designator C?, comment CAPACITOR, American symbol
GateName_1: G$1; SymbolName_1: C-US-1; DeviceName: 01005; DeviceSetName: C-US; LibraryName: resistor; Package: C01005
footprint C01005
pins: 1, 2

## C-USC025_050-024X070
designator C?, comment CAPACITOR, American symbol
GateName_1: G$1; SymbolName_1: C-US-1; DeviceName: C025_050-024X070; DeviceSetName: C-US; LibraryName: resistor; Package: C025_050-024X070
footprint C025_050-024X070
pins: 1, 2

## C-USC0201
designator C?, comment CAPACITOR, American symbol
GateName_1: G$1; SymbolName_1: C-US-1; DeviceName: C0201; DeviceSetName: C-US; LibraryName: resistor; Package: C0201
footprint C0201
pins: 1, 2

## C-USC0402
designator C?, comment CAPACITOR, American symbol
GateName_1: G$1; SymbolName_1: C-US-1; DeviceName: C0402; DeviceSetName: C-US; LibraryName: resistor; Package: C0402
footprint C0402
pins: 1, 2

## C-USC0402K
designator C?, comment CAPACITOR, American symbol
GateName_1: G$1; SymbolName_1: C-US-1; DeviceName: C0402K; DeviceSetName: C-US; LibraryName: resistor; Package: C0402K
footprint C0402K
pins: 1, 2

## C-USC0504
designator C?, comment CAPACITOR, American symbol
GateName_1: G$1; SymbolName_1: C-US-1; DeviceName: C0504; DeviceSetName: C-US; LibraryName: resistor; Package: C0504
footprint C0504
pins: 1, 2

## C-USC0603
designator C?, comment CAPACITOR, American symbol
GateName_1: G$1; SymbolName_1: C-US-1; DeviceName: C0603; DeviceSetName: C-US; LibraryName: resistor; Package: C0603
footprint C0603
pins: 1, 2

## C-USC0603K
designator C?, comment CAPACITOR, American symbol
GateName_1: G$1; SymbolName_1: C-US-1; DeviceName: C0603K; DeviceSetName: C-US; LibraryName: resistor; Package: C0603K
footprint C0603K
pins: 1, 2

## C-USC0805
designator C?, comment CAPACITOR, American symbol
GateName_1: G$1; SymbolName_1: C-US-1; DeviceName: C0805; DeviceSetName: C-US; LibraryName: resistor; Package: C0805
footprint C0805
pins: 1, 2

## C-USC0805K
designator C?, comment CAPACITOR, American symbol
GateName_1: G$1; SymbolName_1: C-US-1; DeviceName: C0805K; DeviceSetName: C-US; LibraryName: resistor; Package: C0805K
footprint C0805K
pins: 1, 2

## C-USC1206
designator C?, comment CAPACITOR, American symbol
GateName_1: G$1; SymbolName_1: C-US-1; DeviceName: C1206; DeviceSetName: C-US; LibraryName: resistor; Package: C1206
footprint C1206
pins: 1, 2

## C-USC1206K
designator C?, comment CAPACITOR, American symbol
GateName_1: G$1; SymbolName_1: C-US-1; DeviceName: C1206K; DeviceSetName: C-US; LibraryName: resistor; Package: C1206K
footprint C1206K
pins: 1, 2

## C-USC1210
designator C?, comment CAPACITOR, American symbol
GateName_1: G$1; SymbolName_1: C-US-1; DeviceName: C1210; DeviceSetName: C-US; LibraryName: resistor; Package: C1210
footprint C1210
pins: 1, 2

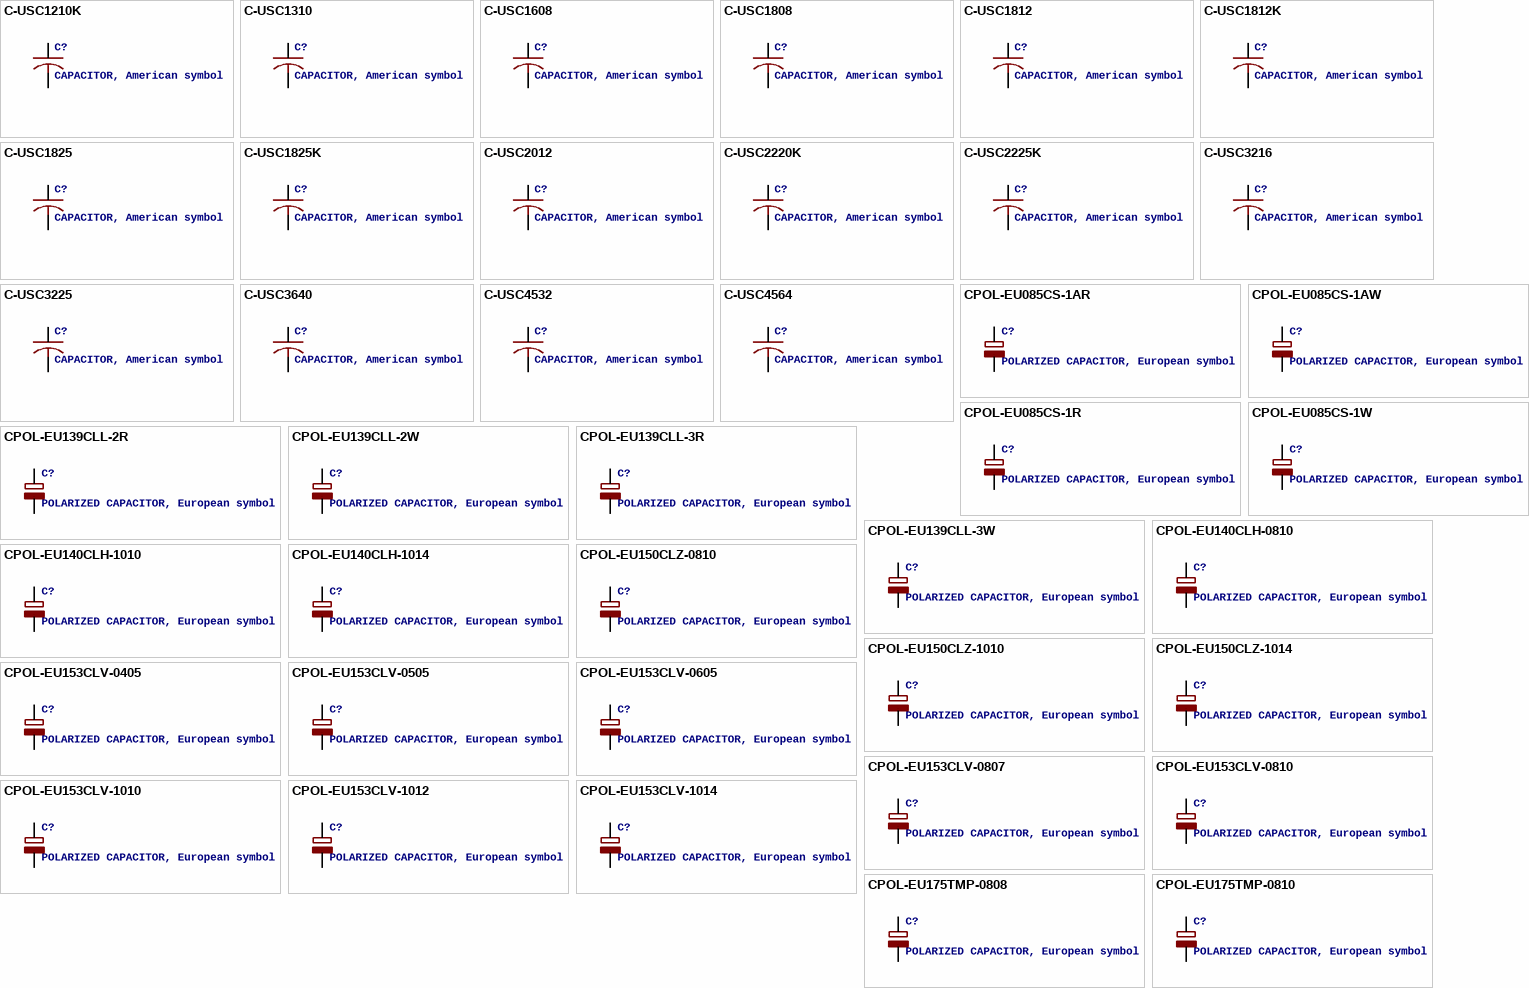
[diagram p4: symbols C-USC1210K to CPOL-EU175TMP-0810]

## C-USC1210K
designator C?, comment CAPACITOR, American symbol
GateName_1: G$1; SymbolName_1: C-US-1; DeviceName: C1210K; DeviceSetName: C-US; LibraryName: resistor; Package: C1210K
footprint C1210K
pins: 1, 2

## C-USC1310
designator C?, comment CAPACITOR, American symbol
GateName_1: G$1; SymbolName_1: C-US-1; DeviceName: C1310; DeviceSetName: C-US; LibraryName: resistor; Package: C1310
footprint C1310
pins: 1, 2

## C-USC1608
designator C?, comment CAPACITOR, American symbol
GateName_1: G$1; SymbolName_1: C-US-1; DeviceName: C1608; DeviceSetName: C-US; LibraryName: resistor; Package: C1608
footprint C1608
pins: 1, 2

## C-USC1808
designator C?, comment CAPACITOR, American symbol
GateName_1: G$1; SymbolName_1: C-US-1; DeviceName: C1808; DeviceSetName: C-US; LibraryName: resistor; Package: C1808
footprint C1808
pins: 1, 2

## C-USC1812
designator C?, comment CAPACITOR, American symbol
GateName_1: G$1; SymbolName_1: C-US-1; DeviceName: C1812; DeviceSetName: C-US; LibraryName: resistor; Package: C1812
footprint C1812
pins: 1, 2

## C-USC1812K
designator C?, comment CAPACITOR, American symbol
GateName_1: G$1; SymbolName_1: C-US-1; DeviceName: C1812K; DeviceSetName: C-US; LibraryName: resistor; Package: C1812K
footprint C1812K
pins: 1, 2

## C-USC1825
designator C?, comment CAPACITOR, American symbol
GateName_1: G$1; SymbolName_1: C-US-1; DeviceName: C1825; DeviceSetName: C-US; LibraryName: resistor; Package: C1825
footprint C1825
pins: 1, 2

## C-USC1825K
designator C?, comment CAPACITOR, American symbol
GateName_1: G$1; SymbolName_1: C-US-1; DeviceName: C1825K; DeviceSetName: C-US; LibraryName: resistor; Package: C1825K
footprint C1825K
pins: 1, 2

## C-USC2012
designator C?, comment CAPACITOR, American symbol
GateName_1: G$1; SymbolName_1: C-US-1; DeviceName: C2012; DeviceSetName: C-US; LibraryName: resistor; Package: C2012
footprint C2012
pins: 1, 2

## C-USC2220K
designator C?, comment CAPACITOR, American symbol
GateName_1: G$1; SymbolName_1: C-US-1; DeviceName: C2220K; DeviceSetName: C-US; LibraryName: resistor; Package: C2220K
footprint C2220K
pins: 1, 2

## C-USC2225K
designator C?, comment CAPACITOR, American symbol
GateName_1: G$1; SymbolName_1: C-US-1; DeviceName: C2225K; DeviceSetName: C-US; LibraryName: resistor; Package: C2225K
footprint C2225K
pins: 1, 2

## C-USC3216
designator C?, comment CAPACITOR, American symbol
GateName_1: G$1; SymbolName_1: C-US-1; DeviceName: C3216; DeviceSetName: C-US; LibraryName: resistor; Package: C3216
footprint C3216
pins: 1, 2

## C-USC3225
designator C?, comment CAPACITOR, American symbol
GateName_1: G$1; SymbolName_1: C-US-1; DeviceName: C3225; DeviceSetName: C-US; LibraryName: resistor; Package: C3225
footprint C3225
pins: 1, 2

## C-USC3640
designator C?, comment CAPACITOR, American symbol
GateName_1: G$1; SymbolName_1: C-US-1; DeviceName: C3640; DeviceSetName: C-US; LibraryName: resistor; Package: C3640
footprint C3640
pins: 1, 2

## C-USC4532
designator C?, comment CAPACITOR, American symbol
GateName_1: G$1; SymbolName_1: C-US-1; DeviceName: C4532; DeviceSetName: C-US; LibraryName: resistor; Package: C4532
footprint C4532
pins: 1, 2

## C-USC4564
designator C?, comment CAPACITOR, American symbol
GateName_1: G$1; SymbolName_1: C-US-1; DeviceName: C4564; DeviceSetName: C-US; LibraryName: resistor; Package: C4564
footprint C4564
pins: 1, 2

## CPOL-EU085CS-1AR
designator C?, comment POLARIZED CAPACITOR, European symbol
GateName_1: G$1; SymbolName_1: CPOL; DeviceName: 085CS-1AR; DeviceSetName: CPOL-EU; LibraryName: resistor; Package: 085CS_1AR
footprint 085CS_1AR
pins: +, -

## CPOL-EU085CS-1AW
designator C?, comment POLARIZED CAPACITOR, European symbol
GateName_1: G$1; SymbolName_1: CPOL; DeviceName: 085CS-1AW; DeviceSetName: CPOL-EU; LibraryName: resistor; Package: 085CS_1AW
footprint 085CS_1AW
pins: +, -

## CPOL-EU085CS-1R
designator C?, comment POLARIZED CAPACITOR, European symbol
GateName_1: G$1; SymbolName_1: CPOL; DeviceName: 085CS-1R; DeviceSetName: CPOL-EU; LibraryName: resistor; Package: 085CS_1R
footprint 085CS_1R
pins: +, -

## CPOL-EU085CS-1W
designator C?, comment POLARIZED CAPACITOR, European symbol
GateName_1: G$1; SymbolName_1: CPOL; DeviceName: 085CS-1W; DeviceSetName: CPOL-EU; LibraryName: resistor; Package: 085CS_1W
footprint 085CS_1W
pins: +, -

## CPOL-EU139CLL-2R
designator C?, comment POLARIZED CAPACITOR, European symbol
GateName_1: G$1; SymbolName_1: CPOL; DeviceName: 139CLL-2R; DeviceSetName: CPOL-EU; LibraryName: resistor; Package: 139CLL-2R
footprint 139CLL-2R
pins: +, -

## CPOL-EU139CLL-2W
designator C?, comment POLARIZED CAPACITOR, European symbol
GateName_1: G$1; SymbolName_1: CPOL; DeviceName: 139CLL-2W; DeviceSetName: CPOL-EU; LibraryName: resistor; Package: 139CLL-2W
footprint 139CLL-2W
pins: +, -

## CPOL-EU139CLL-3R
designator C?, comment POLARIZED CAPACITOR, European symbol
GateName_1: G$1; SymbolName_1: CPOL; DeviceName: 139CLL-3R; DeviceSetName: CPOL-EU; LibraryName: resistor; Package: 139CLL-3R
footprint 139CLL-3R
pins: +, -

## CPOL-EU139CLL-3W
designator C?, comment POLARIZED CAPACITOR, European symbol
GateName_1: G$1; SymbolName_1: CPOL; DeviceName: 139CLL-3W; DeviceSetName: CPOL-EU; LibraryName: resistor; Package: 139CLL-3W
footprint 139CLL-3W
pins: +, -

## CPOL-EU140CLH-0810
designator C?, comment POLARIZED CAPACITOR, European symbol
GateName_1: G$1; SymbolName_1: CPOL; DeviceName: 140CLH-0810; DeviceSetName: CPOL-EU; LibraryName: resistor; Package: 140CLH-0810
footprint 140CLH-0810
pins: +, -

## CPOL-EU140CLH-1010
designator C?, comment POLARIZED CAPACITOR, European symbol
GateName_1: G$1; SymbolName_1: CPOL; DeviceName: 140CLH-1010; DeviceSetName: CPOL-EU; LibraryName: resistor; Package: 140CLH-1010
footprint 140CLH-1010
pins: +, -

## CPOL-EU140CLH-1014
designator C?, comment POLARIZED CAPACITOR, European symbol
GateName_1: G$1; SymbolName_1: CPOL; DeviceName: 140CLH-1014; DeviceSetName: CPOL-EU; LibraryName: resistor; Package: 140CLH-1014
footprint 140CLH-1014
pins: +, -

## CPOL-EU150CLZ-0810
designator C?, comment POLARIZED CAPACITOR, European symbol
GateName_1: G$1; SymbolName_1: CPOL; DeviceName: 150CLZ-0810; DeviceSetName: CPOL-EU; LibraryName: resistor; Package: 150CLZ-0810
footprint 150CLZ-0810
pins: +, -

## CPOL-EU150CLZ-1010
designator C?, comment POLARIZED CAPACITOR, European symbol
GateName_1: G$1; SymbolName_1: CPOL; DeviceName: 150CLZ-1010; DeviceSetName: CPOL-EU; LibraryName: resistor; Package: 150CLZ-1010
footprint 150CLZ-1010
pins: +, -

## CPOL-EU150CLZ-1014
designator C?, comment POLARIZED CAPACITOR, European symbol
GateName_1: G$1; SymbolName_1: CPOL; DeviceName: 150CLZ-1014; DeviceSetName: CPOL-EU; LibraryName: resistor; Package: 150CLZ-1014
footprint 150CLZ-1014
pins: +, -

## CPOL-EU153CLV-0405
designator C?, comment POLARIZED CAPACITOR, European symbol
GateName_1: G$1; SymbolName_1: CPOL; DeviceName: 153CLV-0405; DeviceSetName: CPOL-EU; LibraryName: resistor; Package: 153CLV-0405
footprint 153CLV-0405
pins: +, -

## CPOL-EU153CLV-0505
designator C?, comment POLARIZED CAPACITOR, European symbol
GateName_1: G$1; SymbolName_1: CPOL; DeviceName: 153CLV-0505; DeviceSetName: CPOL-EU; LibraryName: resistor; Package: 153CLV-0505
footprint 153CLV-0505
pins: +, -

## CPOL-EU153CLV-0605
designator C?, comment POLARIZED CAPACITOR, European symbol
GateName_1: G$1; SymbolName_1: CPOL; DeviceName: 153CLV-0605; DeviceSetName: CPOL-EU; LibraryName: resistor; Package: 153CLV-0605
footprint 153CLV-0605
pins: +, -

## CPOL-EU153CLV-0807
designator C?, comment POLARIZED CAPACITOR, European symbol
GateName_1: G$1; SymbolName_1: CPOL; DeviceName: 153CLV-0807; DeviceSetName: CPOL-EU; LibraryName: resistor; Package: 153CLV-0807
footprint 153CLV-0807
pins: +, -

## CPOL-EU153CLV-0810
designator C?, comment POLARIZED CAPACITOR, European symbol
GateName_1: G$1; SymbolName_1: CPOL; DeviceName: 153CLV-0810; DeviceSetName: CPOL-EU; LibraryName: resistor; Package: 153CLV-0810
footprint 153CLV-0810
pins: +, -

## CPOL-EU153CLV-1010
designator C?, comment POLARIZED CAPACITOR, European symbol
GateName_1: G$1; SymbolName_1: CPOL; DeviceName: 153CLV-1010; DeviceSetName: CPOL-EU; LibraryName: resistor; Package: 153CLV-1010
footprint 153CLV-1010
pins: +, -

## CPOL-EU153CLV-1012
designator C?, comment POLARIZED CAPACITOR, European symbol
GateName_1: G$1; SymbolName_1: CPOL; DeviceName: 153CLV-1012; DeviceSetName: CPOL-EU; LibraryName: resistor; Package: 153CLV-1012
footprint 153CLV-1012
pins: +, -

## CPOL-EU153CLV-1014
designator C?, comment POLARIZED CAPACITOR, European symbol
GateName_1: G$1; SymbolName_1: CPOL; DeviceName: 153CLV-1014; DeviceSetName: CPOL-EU; LibraryName: resistor; Package: 153CLV-1014
footprint 153CLV-1014
pins: +, -

## CPOL-EU175TMP-0808
designator C?, comment POLARIZED CAPACITOR, European symbol
GateName_1: G$1; SymbolName_1: CPOL; DeviceName: 175TMP-0808; DeviceSetName: CPOL-EU; LibraryName: resistor; Package: 175TMP-0808
footprint 175TMP-0808
pins: +, -

## CPOL-EU175TMP-0810
designator C?, comment POLARIZED CAPACITOR, European symbol
GateName_1: G$1; SymbolName_1: CPOL; DeviceName: 175TMP-0810; DeviceSetName: CPOL-EU; LibraryName: resistor; Package: 175TMP-0810
footprint 175TMP-0810
pins: +, -

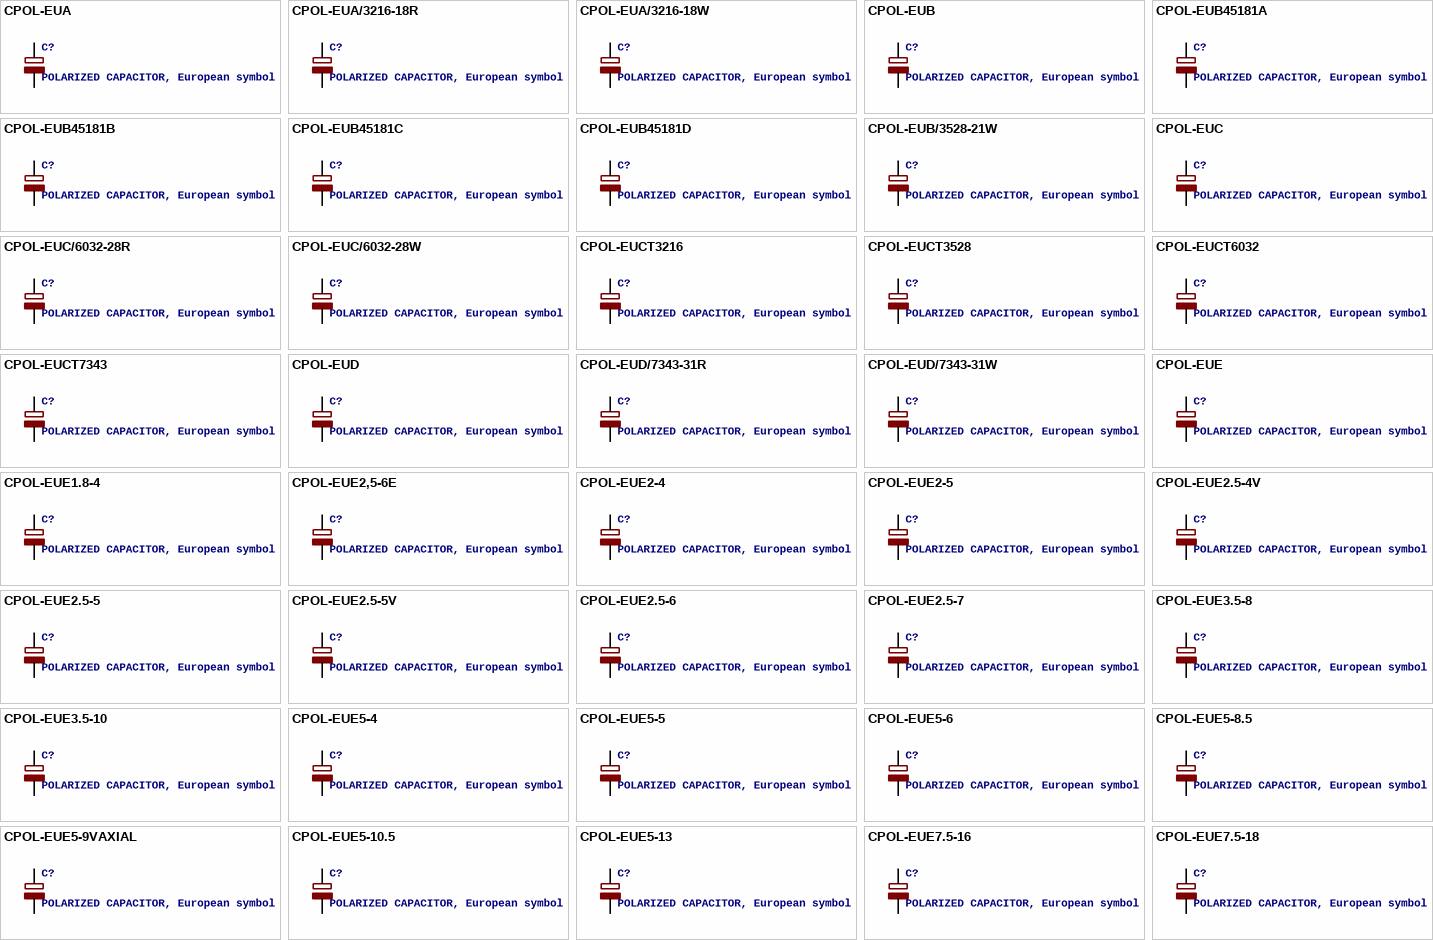
[diagram p5: symbols CPOL-EUA to CPOL-EUE7.5-18]

## CPOL-EUA
designator C?, comment POLARIZED CAPACITOR, European symbol
GateName_1: G$1; SymbolName_1: CPOL; DeviceName: A; DeviceSetName: CPOL-EU; LibraryName: resistor; Package: PANASONIC_A
footprint PANASONIC_A
pins: +, -

## CPOL-EUA/3216-18R
designator C?, comment POLARIZED CAPACITOR, European symbol
GateName_1: G$1; SymbolName_1: CPOL; DeviceName: A/3216-18R; DeviceSetName: CPOL-EU; LibraryName: resistor; Package: A/3216-18R
footprint A/3216-18R
pins: +, -

## CPOL-EUA/3216-18W
designator C?, comment POLARIZED CAPACITOR, European symbol
GateName_1: G$1; SymbolName_1: CPOL; DeviceName: A/3216-18W; DeviceSetName: CPOL-EU; LibraryName: resistor; Package: A/3216-18W
footprint A/3216-18W
pins: +, -

## CPOL-EUB
designator C?, comment POLARIZED CAPACITOR, European symbol
GateName_1: G$1; SymbolName_1: CPOL; DeviceName: B; DeviceSetName: CPOL-EU; LibraryName: resistor; Package: PANASONIC_B
footprint PANASONIC_B
pins: +, -

## CPOL-EUB45181A
designator C?, comment POLARIZED CAPACITOR, European symbol
GateName_1: G$1; SymbolName_1: CPOL; DeviceName: B45181A; DeviceSetName: CPOL-EU; LibraryName: resistor; Package: B45181A
footprint B45181A
pins: +, -

## CPOL-EUB45181B
designator C?, comment POLARIZED CAPACITOR, European symbol
GateName_1: G$1; SymbolName_1: CPOL; DeviceName: B45181B; DeviceSetName: CPOL-EU; LibraryName: resistor; Package: B45181B
footprint B45181B
pins: +, -

## CPOL-EUB45181C
designator C?, comment POLARIZED CAPACITOR, European symbol
GateName_1: G$1; SymbolName_1: CPOL; DeviceName: B45181C; DeviceSetName: CPOL-EU; LibraryName: resistor; Package: B45181C
footprint B45181C
pins: +, -

## CPOL-EUB45181D
designator C?, comment POLARIZED CAPACITOR, European symbol
GateName_1: G$1; SymbolName_1: CPOL; DeviceName: B45181D; DeviceSetName: CPOL-EU; LibraryName: resistor; Package: B45181D
footprint B45181D
pins: +, -

## CPOL-EUB/3528-21W
designator C?, comment POLARIZED CAPACITOR, European symbol
GateName_1: G$1; SymbolName_1: CPOL; DeviceName: B/3528-21W; DeviceSetName: CPOL-EU; LibraryName: resistor; Package: B/3528-21W
footprint B/3528-21W
pins: +, -

## CPOL-EUC
designator C?, comment POLARIZED CAPACITOR, European symbol
GateName_1: G$1; SymbolName_1: CPOL; DeviceName: C; DeviceSetName: CPOL-EU; LibraryName: resistor; Package: PANASONIC_C
footprint PANASONIC_C
pins: +, -

## CPOL-EUC/6032-28R
designator C?, comment POLARIZED CAPACITOR, European symbol
GateName_1: G$1; SymbolName_1: CPOL; DeviceName: C/6032-28R; DeviceSetName: CPOL-EU; LibraryName: resistor; Package: C/6032-28R
footprint C/6032-28R
pins: +, -

## CPOL-EUC/6032-28W
designator C?, comment POLARIZED CAPACITOR, European symbol
GateName_1: G$1; SymbolName_1: CPOL; DeviceName: C/6032-28W; DeviceSetName: CPOL-EU; LibraryName: resistor; Package: C/6032-28W
footprint C/6032-28W
pins: +, -

## CPOL-EUCT3216
designator C?, comment POLARIZED CAPACITOR, European symbol
GateName_1: G$1; SymbolName_1: CPOL; DeviceName: CT3216; DeviceSetName: CPOL-EU; LibraryName: resistor; Package: CT3216
footprint CT3216
pins: + -, - +

## CPOL-EUCT3528
designator C?, comment POLARIZED CAPACITOR, European symbol
GateName_1: G$1; SymbolName_1: CPOL; DeviceName: CT3528; DeviceSetName: CPOL-EU; LibraryName: resistor; Package: CT3528
footprint CT3528
pins: + -, - +

## CPOL-EUCT6032
designator C?, comment POLARIZED CAPACITOR, European symbol
GateName_1: G$1; SymbolName_1: CPOL; DeviceName: CT6032; DeviceSetName: CPOL-EU; LibraryName: resistor; Package: CT6032
footprint CT6032
pins: + -, - +

## CPOL-EUCT7343
designator C?, comment POLARIZED CAPACITOR, European symbol
GateName_1: G$1; SymbolName_1: CPOL; DeviceName: CT7343; DeviceSetName: CPOL-EU; LibraryName: resistor; Package: CT7343
footprint CT7343
pins: +, -